# Altium footprint library PcbLib1.PcbLib: 6 footprints
Each footprint in its own frame and in the unit in brackets; x right, y up, seen from the top. Pads: shape width x height; smd on the part's side, far side on the other; paste and mask are expansions set on the pad; w line width, h text height; cw(c..) or ccw(c..) is an arc to the next point about the centre after c.
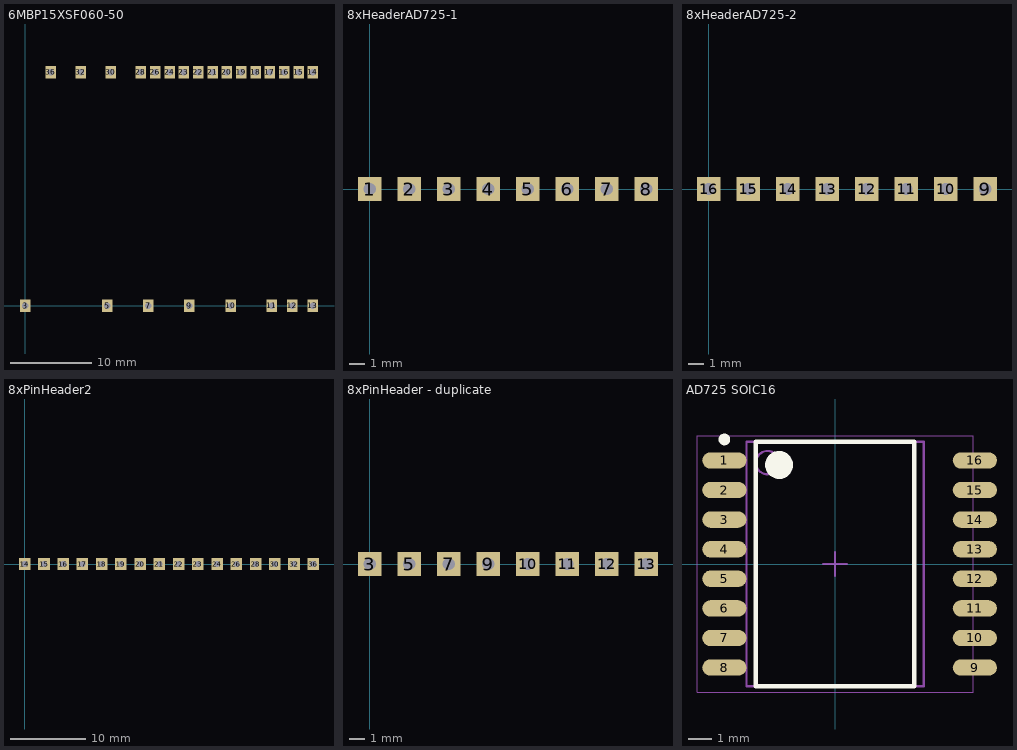
[diagram p0: the footprints below, top view; thin cyan lines are the x and y axes]

## 6MBP15XSF060-50 [mm] "600V 15A"
pads (24):
  rect 1.3x1.5 hole 0.8: 3(0,0) 5(10.15,0) 7(15.22,0) 9(20.29,0) 10(25.36,0) 11(30.43,0) 12(32.98,0) 13(35.53,0) 14(35.53,28.82) 15(33.76,28.82) 16(31.99,28.82) 17(30.22,28.82) 18(28.45,28.82) 19(26.68,28.82) 20(24.91,28.82) 21(23.14,28.82) 22(21.37,28.82) 23(19.6,28.82) 24(17.83,28.82) 26(16.06,28.82) 28(14.29,28.82) 30(10.59,28.82) 32(6.89,28.82) 36(3.19,28.82)

## 8xHeaderAD725-1 [mil]
pads (8):
  rect 60x60 hole 31.5 square: 1(0,0) 2(100,0) 3(200,0) 4(300,0) 5(400,0) 6(500,0) 7(600,0) 8(700,0)
3D body "User Library-Header_Male_8Pin.STEP": height 336.22, standoff -118.11, extent -49.99,-49.01 750.01,49.02

## 8xHeaderAD725-2 [mil]
pads (8):
  rect 60x60 hole 31.5 square: 9(700,0) 10(600,0) 11(500,0) 12(400,0) 13(300,0) 14(200,0) 15(100,0) 16(0,0)
3D body "User Library-Header_Male_8Pin.STEP": height 336.22, standoff -118.11, extent -49.99,-49.01 750.01,49.02

## 8xPinHeader2 [mil]
pads (16):
  rect 60x60 hole 31.5 square: 14(0,0) 15(100,0) 16(200,0) 17(300,0) 18(400,0) 19(500,0) 20(600,0) 21(700,0) 22(800,0) 23(900,0) 24(1000,0) 26(1100,0) 28(1200,0) 30(1300,0) 32(1400,0) 36(1500,0)
3D body "22-03-2161.stp": height 419.06, standoff -140.94, extent -45,-53 1545,40

## 8xPinHeader - duplicate [mil]
pads (8):
  rect 60x60 hole 31.5 square: 3(0,0) 5(100,0) 7(200,0) 9(300,0) 10(400,0) 11(500,0) 12(600,0) 13(700,0)
3D body "User Library-Header_Male_8Pin.STEP": height 336.22, standoff -118.11, extent -49.99,-49.01 750.01,49.02

## AD725 SOIC16 [mm] "SOIC, 16-Leads, Body 10,25x7,50mm, Pitch 1,27mm, IPC Medium Density"
height 2.65
pads (16):
  oval 1.9x0.7 smd: 1(-4.75,4.445) 2(-4.75,3.175) 3(-4.75,1.905) 4(-4.75,0.635) 5(-4.75,-0.635) 6(-4.75,-1.905) 7(-4.75,-3.175) 8(-4.75,-4.445) 9(6,-4.445) 10(6,-3.175) 11(6,-1.905) 12(6,-0.635) 13(6,0.635) 14(6,1.905) 15(6,3.175) 16(6,4.445)
Top Overlay:
  circle w0.6: c-2.4,4.25 r0.3
  circle w0.25: c-4.75,5.345 r0.125
  lines w0.2: -3.4,-5.25 3.4,-5.25 3.4,5.25 -3.4,5.25 -3.4,-5.25
Mechanical 13:
  circle w0.1: c-2.9,4.35 r0.5
  lines w0.1: -3.8,-5.25 3.8,-5.25 3.8,5.25 -3.8,5.25 -3.8,-5.25
Mechanical 15:
  lines w0.05: -5.925,-5.5 5.925,-5.5 5.925,5.5 -5.925,5.5 -5.925,-5.5
  lines w0.1: -0.5,0 0.5,0 ; 0,-0.5 0,0.5
3D body "AD725 SOIC16.step": height 2.65, standoff 0, extent -5.15,-5.25 5.15,5.25